# Altium footprint library connectors.PcbLib: 143 footprints (part 4 of 9)
Each footprint in its own frame and in the unit in brackets; x right, y up, seen from the top. Pads: shape width x height; smd on the part's side, far side on the other; paste and mask are expansions set on the pad; w line width, h text height; cw(c..) or ccw(c..) is an arc to the next point about the centre after c.
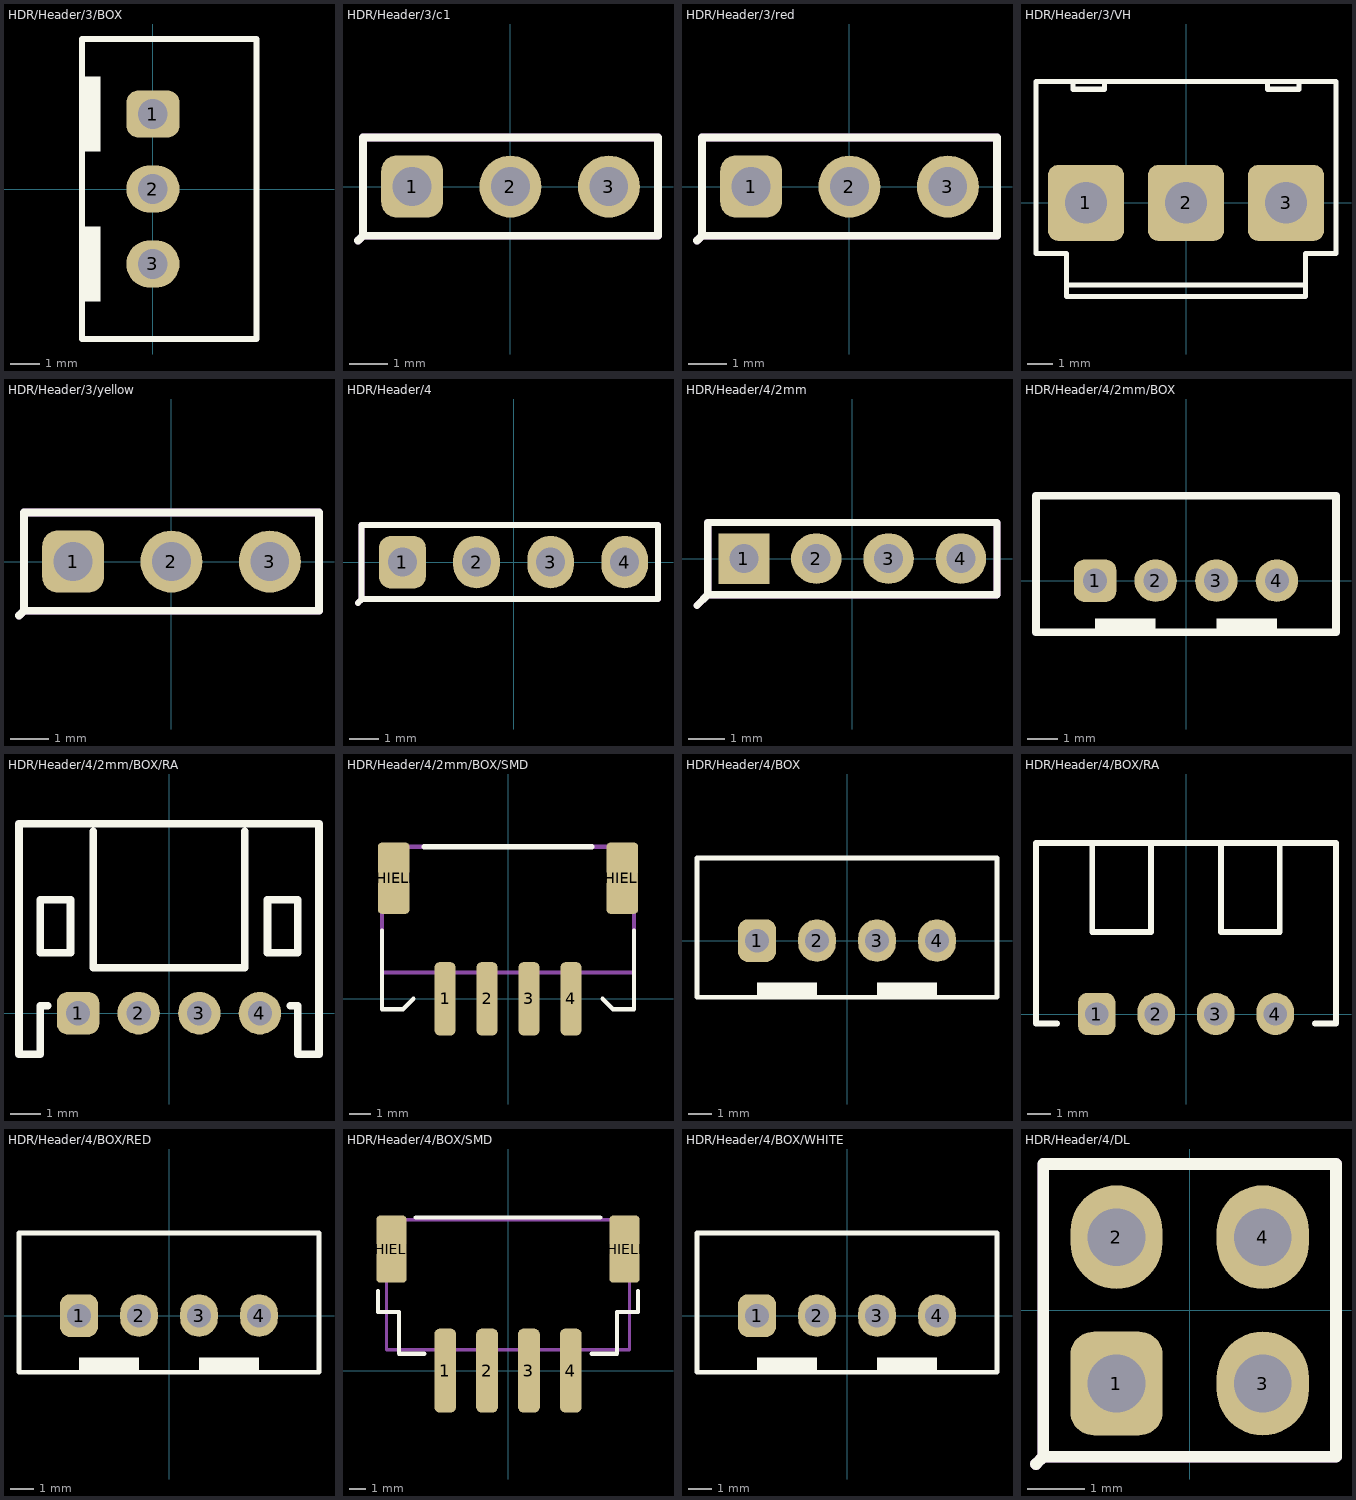
[diagram p3: the footprints below, top view; thin cyan lines are the x and y axes]

## HDR/Header/3/BOX [mm]
pads (3):
  rrect50% 1.8x1.6 hole 1: 1(0,2.54)
  oval 1.8x1.6 hole 1: 2(0,0) 3(0,-2.54)
Top Overlay:
  rectangle: -2.413,-3.81 -1.778,-1.27
  rectangle: -2.413,1.27 -1.778,3.81
  lines w0.203: -2.4,-5.08 3.5,-5.08 3.5,5.08 -2.4,5.08 -2.4,-5.08
3D body "User Library-PW10-XX-M white.step": height 7, standoff -3.3, extent -2.286,-5 3.414,5

## HDR/Header/3/c1 [mm]
pads (3):
  rrect50% 1.6x1.6 hole 1: 1(-2.54,0)
  round 1.6 hole 1: 2(0,0) 3(2.54,0)
Top Overlay:
  lines w0.203: -3.937,-1.397 -3.81,-1.27 ; -3.81,-1.27 -3.81,1.27 3.81,1.27 3.81,-1.27 -3.81,-1.27
Mechanical 1:
  lines w0.203: -3.937,-1.397 -3.81,-1.27 ; -3.81,-1.27 -3.81,1.27 3.81,1.27 3.81,-1.27 -3.81,-1.27
3D body "header-1-black.STEP": height 8.89, standoff -3.05, extent 1.27,-1.27 3.81,1.27
3D body "header-1-white.STEP": height 8.89, standoff -3.05, extent -3.81,-1.27 -1.27,1.27
3D body "header-1-red.STEP": height 8.89, standoff -3.05, extent -1.27,-1.27 1.27,1.27

## HDR/Header/3/red [mm]
pads (3):
  rrect50% 1.6x1.6 hole 1: 1(-2.54,0)
  round 1.6 hole 1: 2(0,0) 3(2.54,0)
Top Overlay:
  lines w0.203: -3.937,-1.397 -3.81,-1.27 ; -3.81,-1.27 3.81,-1.27 3.81,1.27 -3.81,1.27 -3.81,-1.27
Mechanical 1:
  lines w0.203: -3.937,-1.397 -3.81,-1.27 ; -3.81,-1.27 3.81,-1.27 3.81,1.27 -3.81,1.27 -3.81,-1.27
3D body "header-1-red.STEP": height 8.89, standoff -3.05, extent -3.81,-1.27 -1.27,1.27
3D body "header-1-red.STEP": height 8.89, standoff -3.05, extent -1.27,-1.27 1.27,1.27
3D body "header-1-red.STEP": height 8.89, standoff -3.05, extent 1.27,-1.27 3.81,1.27

## HDR/Header/3/VH [mm]
pads (3):
  rrect25% 3x3 hole 1.65: 1(-3.96,0) 2(0,0) 3(3.96,0)
Top Overlay:
  lines w0.203: -4.73,-3.25 4.73,-3.25 ; -4.48,4.75 -4.48,4.5 -3.23,4.5 -3.23,4.8 ; 3.23,4.8 3.23,4.5 4.48,4.5 4.48,4.75 ; -5.94,-2 -4.73,-2 -4.73,-3.7 4.73,-3.7 4.73,-2 5.94,-2 5.94,4.8 -5.94,4.8 -5.94,-2
3D body "User Library-B3P-VH-R.STEP": height 10.9, standoff -3.7, extent -5.91,-3.75 5.91,4.75

## HDR/Header/3/yellow [mm]
pads (3):
  rrect50% 1.6x1.6 hole 1: 1(-2.54,0)
  round 1.6 hole 1: 2(0,0) 3(2.54,0)
Top Overlay:
  lines w0.203: -3.937,-1.397 -3.81,-1.27 ; -3.81,-1.27 -3.81,1.27 3.81,1.27 3.81,-1.27 -3.81,-1.27
Mechanical 1:
  lines w0.203: -3.937,-1.397 -3.81,-1.27 ; -3.81,-1.27 -3.81,1.27 3.81,1.27 3.81,-1.27 -3.81,-1.27
3D body "header-1-yellow.STEP": height 8.89, standoff -3.05, extent -3.81,-1.27 -1.27,1.27
3D body "header-1-yellow.STEP": height 8.89, standoff -3.05, extent -1.27,-1.27 1.27,1.27
3D body "header-1-yellow.STEP": height 8.89, standoff -3.05, extent 1.27,-1.27 3.81,1.27

## HDR/Header/4 [mm]
pads (4):
  rrect50% 1.6x1.8 hole 1: 1(-3.81,0)
  oval 1.6x1.8 hole 1: 2(-1.27,0) 3(1.27,0) 4(3.81,0)
Top Overlay:
  lines w0.203: -5.334,-1.397 -5.207,-1.27 ; -5.207,-1.27 -5.207,1.27 4.953,1.27 4.953,-1.27 -5.207,-1.27
Mechanical 1:
  lines w0.203: -5.334,-1.397 -5.207,-1.27 ; -5.207,-1.27 -5.207,1.27 4.953,1.27 4.953,-1.27 -5.207,-1.27
3D body "Samtec Header 4pin 2.54mm.STEP": height 8.89, standoff -2.03, extent -5.08,-1.27 5.08,1.27

## HDR/Header/4/2mm [mm]
pads (4):
  rect 1.4x1.4 hole 0.8: 1(-3,0)
  round 1.4 hole 0.8: 2(-1,0) 3(1,0) 4(3,0)
Top Overlay:
  lines w0.203: -4.3,-1.3 -4,-1 ; -4,-1 4,-1 4,1 -4,1 -4,-1
Mechanical 1:
  lines w0.203: -4.3,-1.3 -4,-1 ; -4,-1 4,-1 4,1 -4,1 -4,-1
3D body "pin_header_a-sl200-eg-g04d.stp": height 6, standoff -2.8, extent -3.975,-1 3.975,1

## HDR/Header/4/2mm/BOX [mm]
pads (4):
  rrect50% 1.4x1.4 hole 0.8: 1(-3,0)
  round 1.4 hole 0.8: 2(-1,0) 3(1,0) 4(3,0)
Top Overlay:
  rectangle: -3,-1.7 -1,-1.25
  rectangle: 1,-1.7 3,-1.25
  lines w0.254: -4.95,-1.7 -4.95,2.8 4.95,2.8 4.95,-1.7 -4.95,-1.7
3D body "B4B-PH-K-S.STEP": height 6, standoff -3.4, extent -4.95,-1.7 4.95,2.8

## HDR/Header/4/2mm/BOX/RA [mm]
pads (4):
  rrect50% 1.4x1.4 hole 0.8: 1(-3,0)
  round 1.4 hole 0.8: 2(-1,0) 3(1,0) 4(3,0)
Top Overlay:
  lines w0.254: -4,0.25 -4.25,0.25 -4.25,-1.35 -4.95,-1.35 -4.95,6.25 4.95,6.25 4.95,-1.35 4.25,-1.35 4.25,0.25 4,0.25 ; -2.5,6 -2.5,1.5 2.5,1.5 2.5,6 ; -4.25,2 -4.25,3.75 -3.25,3.75 -3.25,2 -4.25,2 ; 3.25,2 4.25,2 4.25,3.75 3.25,3.75 3.25,2
3D body "S4B-PH-K-S.STEP": height 4.8, standoff -3.4, extent -4.95,-1.35 4.95,6.25

## HDR/Header/4/2mm/BOX/SMD [mm]
pads (6):
  rrect50% 1x3.5 smd: 1(-3,0) 2(-1,0) 3(1,0) 4(3,0)
  rrect25% 1.5x3.4 smd: SHIELD(-5.45,5.75) SHIELD(5.45,5.75)
Top Overlay:
  lines w0.2: -6,3.25 -6,-0.5 -5,-0.5 -4.5,0 ; 4.5,0 5,-0.5 6,-0.5 6,3.25
  lines w0.25: -4,7.25 4,7.25
Mechanical 1:
  lines w0.2: -6,1.25 -6,7.25 6,7.25 6,1.25 -6,1.25
3D body "S4B-PH-SM4-TB.stp": height 4.8, standoff 0, extent -5.95,-1.35 5.95,7.25

## HDR/Header/4/BOX [mm]
pads (4):
  rrect50% 1.6x1.8 hole 1: 1(-3.81,0)
  oval 1.6x1.8 hole 1: 2(-1.27,0) 3(1.27,0) 4(3.81,0)
Top Overlay:
  region: 3.81,-2.413 3.81,-1.778 1.27,-1.778 1.27,-2.413
  region: -1.27,-2.413 -1.27,-1.778 -3.81,-1.778 -3.81,-2.413
  lines w0.203: -6.35,-2.4 -6.35,3.5 6.35,3.5 6.35,-2.4 -6.35,-2.4
3D body "User Library-PW10-04-M white.step": height 7, standoff -3.3, extent -6.25,-2.3 6.25,3.4

## HDR/Header/4/BOX/RA [mm]
pads (4):
  rrect50% 1.6x1.8 hole 1: 1(-3.81,0)
  oval 1.6x1.8 hole 1: 2(-1.27,0) 3(1.27,0) 4(3.81,0)
Top Overlay:
  lines w0.254: -5.5,-0.4 -6.4,-0.4 -6.4,7.3 6.4,7.3 6.4,-0.4 5.5,-0.4 ; -4,7.3 -4,3.5 -1.5,3.5 -1.5,7.3 ; 1.5,7.3 1.5,3.5 4,3.5 4,7.3
3D body "User Library-XH2_54-4P-R-1.step": height 5.9, standoff -3, extent -6.25,-0.3 6.25,7.3

## HDR/Header/4/BOX/RED [mm]
pads (4):
  rrect50% 1.6x1.8 hole 1: 1(-3.81,0)
  oval 1.6x1.8 hole 1: 2(-1.27,0) 3(1.27,0) 4(3.81,0)
Top Overlay:
  region: -1.27,-2.413 -1.27,-1.778 -3.81,-1.778 -3.81,-2.413
  region: 3.81,-2.413 3.81,-1.778 1.27,-1.778 1.27,-2.413
  lines w0.203: -6.35,-2.4 6.35,-2.4 6.35,3.5 -6.35,3.5 -6.35,-2.4
3D body "JST-B4B-XH-RED.STEP": height 7, standoff -3.4, extent -6.2,-2.3 6.2,3.45

## HDR/Header/4/BOX/SMD [mm]
pads (6):
  rrect50% 1.3x5 smd: 1(-3.75,0) 2(-1.25,0) 3(1.25,0) 4(3.75,0)
  rrect25% 1.8x4 smd: SHIELD(-6.95,7.25) SHIELD(6.95,7.25)
Top Overlay:
  lines w0.25: -7.75,4.75 -7.75,3.5 -6.5,3.5 -6.5,1 -5,1 ; -5.5,9.125 5.5,9.125 ; 5,1 6.5,1 6.5,3.5 7.75,3.5 7.75,4.75
Mechanical 1:
  lines w0.2: -7.25,1.25 7.25,1.25 7.25,9 -7.25,9 -7.25,1.25
3D body "User Library-XHB-2_54-4P.step": height 6.5, standoff 0.03, extent -7.5,-1.186 7.5,9

## HDR/Header/4/BOX/WHITE [mm]
pads (4):
  rrect50% 1.6x1.8 hole 1: 1(-3.81,0)
  oval 1.6x1.8 hole 1: 2(-1.27,0) 3(1.27,0) 4(3.81,0)
Top Overlay:
  region: -1.27,-2.413 -1.27,-1.778 -3.81,-1.778 -3.81,-2.413
  region: 3.81,-2.413 3.81,-1.778 1.27,-1.778 1.27,-2.413
  lines w0.203: -6.35,-2.4 6.35,-2.4 6.35,3.5 -6.35,3.5 -6.35,-2.4
3D body "JST-B4B-XH-WHITE.STEP": height 7, standoff -3.4, extent -6.2,-2.3 6.2,3.45

## HDR/Header/4/DL [mm]
pads (4):
  rrect50% 1.6x1.8 hole 1: 1(-1.27,-1.27)
  oval 1.6x1.8 hole 1: 2(-1.27,1.27) 3(1.27,-1.27) 4(1.27,1.27)
Top Overlay:
  lines w0.203: -2.667,-2.667 -2.54,-2.54 ; -2.54,-2.54 2.54,-2.54 2.54,2.54 -2.54,2.54 -2.54,-2.54
Mechanical 1:
  lines w0.203: -2.667,-2.667 -2.54,-2.54 ; -2.54,-2.54 2.54,-2.54 2.54,2.54 -2.54,2.54 -2.54,-2.54
3D body "Samtec Header 2pin 2.54mm.STEP": height 8.89, standoff -2.03, extent -2.54,0 2.54,2.54
3D body "Samtec Header 2pin 2.54mm.STEP": height 8.89, standoff -2.03, extent -2.54,-2.54 2.54,0